# Altium integrated library Linear Technology Power Management LDO Linear Regulators.IntLib: 2339 symbols (part 114 of 131)
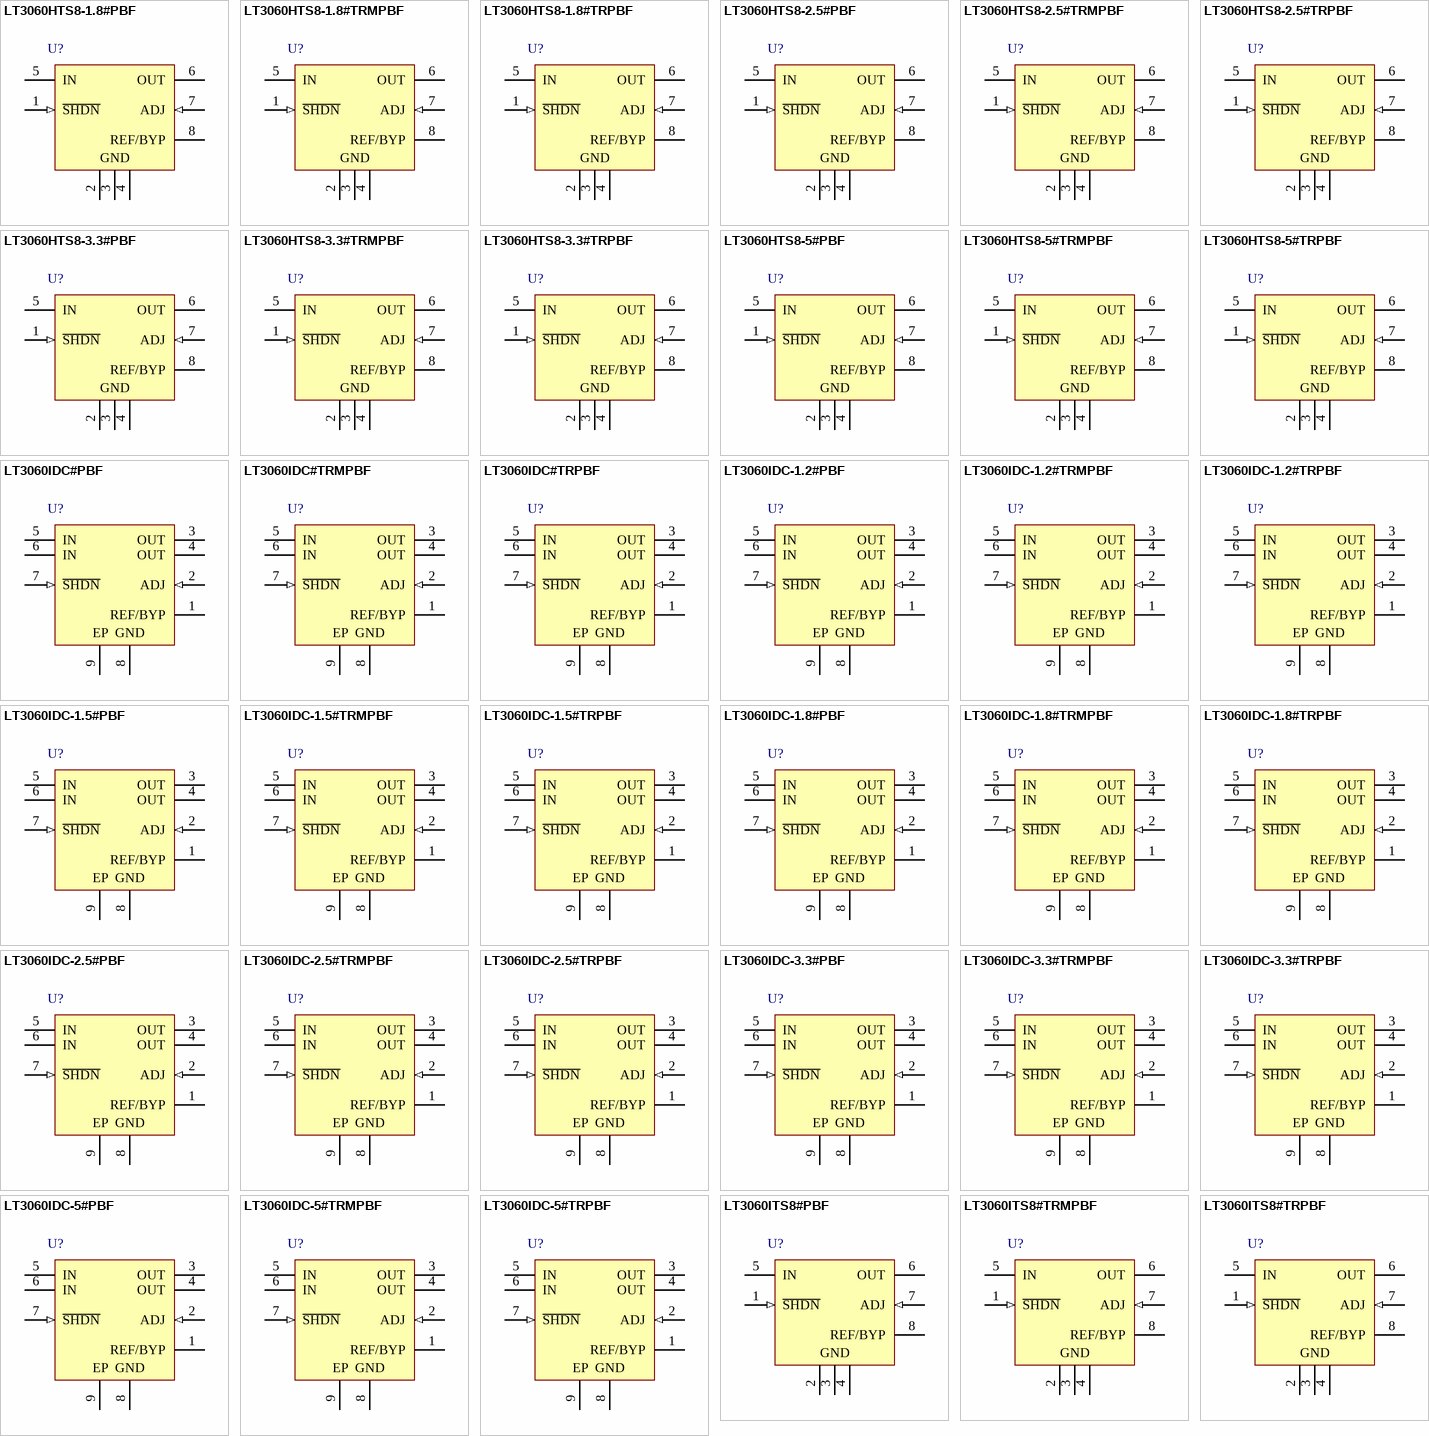
[diagram p182: symbols LT3060HTS8-1.8#PBF to LT3060ITS8#TRPBF]

## LT3060IDC#PBF
designator U?
Micropower, Low Noise, 100 mA Low Dropout, Linear Regulator, 1.6 to 45 V Vin, Adjustable Vout, 8-pin SON (DC8-8), -40 to 125 degC, Pb-Free; Manufacturer: Linear Technology; PartNumber: LT3060IDC#PBF; Discrete Pass Element: no; Dropout Voltage(V): 0.3; Iout(mA): 100; Isupply(mA): 0.04; Noise(uV): 30; Number of Outputs: 1; Output Voltage: Adj; PSRR(dB): 85; Vin Max(V): 45; Vin Min(V): 1.6; Vout Max(V): 44.5; Vout Min(V): 0.6; DatasheetVersion: Rev. B; PackageVersion: Rev. A, 06/2010; PackageReference: DC8-8; PackageDescription: 8-Pin Plastic DFN, Body 2 x 2 mm, Pitch 0.45 mm; Supplier 1: Newark; Supplier Part Number 1: 78T3957; RoHS: TRUE; Shutdown Current(uA): 0.3; Mounting Technology: Surface Mount; ComponentLink1Description: Manufacturer URL; ComponentLink1URL: http://www.linear.com/; ComponentLink2Description: Datasheet; ComponentLink2URL: http://cds.linear.com/docs/en/datasheet/3060fb.pdf; ComponentLink3Description: Package Specification; ComponentLink3URL: http://www.linear.com/docs/en/packaging/DFN_8_05-08-1719.pdf
footprint LT-DC8-8_V (SON, 8-Leads, Body 2x2mm, Pitch 0.45mm, Thermal Pad 1.37x0.64mm)
pins: 1 REF/BYP "Reference/Bypass. Connecting a single capacitor from this pin to GND bypasses the LT3060’s reference noise and soft-starts the reference. A 10nF bypass capacitor typically reduces output voltage noise to 30uVRMS in a 10H(See Datasheet)", 2 ADJ (in) "Adjust. This pin is the error amplifier’s inverting terminal. It’s typical bias current of 15nA flows out of the pin (see curve of ADJ Pin Bias Current vs Temperature in the Typical Performance Characteristics sectio(See Datasheet)", 3 OUT (power) "Output. These pin(s) supply power to the load. Stability requirements demand a minimum 2.2uF ceramic output capacitor to prevent oscillations. Large load transient applications require larger output capacitors to limit peak (See Datasheet)", 4 OUT (power) "Output. These pin(s) supply power to the load. Stability requirements demand a minimum 2.2uF ceramic output capacitor to prevent oscillations. Large load transient applications require larger output capacitors to limit peak (See Datasheet)", 5 IN (power) "Input. These pin(s) supply power to the device. The LT3060 requires a local IN bypass capacitor if it is located more than six inches from the main input filter capacitor. In general, battery output impedance rises with (See Datasheet)", 6 IN (power) "Input. These pin(s) supply power to the device. The LT3060 requires a local IN bypass capacitor if it is located more than six inches from the main input filter capacitor. In general, battery output impedance rises with (See Datasheet)", 7 ~{SHDN} (in) "Shutdown. Pulling the S\H\D\N\ pin low puts the LT3060 into a low power state and turns the output off. Drive the S\H\D\N\ pin with either logic or an open collector/drain with a pull-up resistor. The resistor supplies the (See Datasheet)", 8 GND (power) "Ground. For the adjustable LT3060, connect the bottom of the external resistor divider that sets the output voltage directly to GND for optimum regulation. For the DFN package, tie exposed pad Pin 9 directly to Pin 8 and the (See Datasheet)", 9 EP (power) "Ground. For the adjustable LT3060, connect the bottom of the external resistor divider that sets the output voltage directly to GND for optimum regulation. For the DFN package, tie exposed pad Pin 9 directly to Pin 8 and the (See Datasheet)"

## LT3060IDC#TRMPBF
designator U?
Micropower, Low Noise, 100 mA Low Dropout, Linear Regulator, 1.6 to 45 V Vin, Adjustable Vout, 8-pin SON (DC8-8), -40 to 125 degC, Pb-Free, Mini Tape and Reel; Manufacturer: Linear Technology; PartNumber: LT3060IDC#TRMPBF; Discrete Pass Element: no; Dropout Voltage(V): 0.3; Iout(mA): 100; Isupply(mA): 0.04; Noise(uV): 30; Number of Outputs: 1; Output Voltage: Adj; PSRR(dB): 85; Vin Max(V): 45; Vin Min(V): 1.6; Vout Max(V): 44.5; Vout Min(V): 0.6; DatasheetVersion: Rev. B; PackageVersion: Rev. A, 06/2010; PackageReference: DC8-8; PackageDescription: 8-Pin Plastic DFN, Body 2 x 2 mm, Pitch 0.45 mm; Supplier 1: Digi-Key; Supplier Part Number 1: LT3060IDC#TRMPBF-ND; Supplier 2: Newark; Supplier Part Number 2: 63R6843; Packing: Mini Tape and Reel; RoHS: TRUE; Shutdown Current(uA): 0.3; Mounting Technology: Surface Mount; ComponentLink1Description: Manufacturer URL; ComponentLink1URL: http://www.linear.com/; ComponentLink2Description: Datasheet; ComponentLink2URL: http://cds.linear.com/docs/en/datasheet/3060fb.pdf; ComponentLink3Description: Package Specification; ComponentLink3URL: http://www.linear.com/docs/en/packaging/DFN_8_05-08-1719.pdf
footprint LT-DC8-8_V (SON, 8-Leads, Body 2x2mm, Pitch 0.45mm, Thermal Pad 1.37x0.64mm)
pins: 1 REF/BYP "Reference/Bypass. Connecting a single capacitor from this pin to GND bypasses the LT3060’s reference noise and soft-starts the reference. A 10nF bypass capacitor typically reduces output voltage noise to 30uVRMS in a 10H(See Datasheet)", 2 ADJ (in) "Adjust. This pin is the error amplifier’s inverting terminal. It’s typical bias current of 15nA flows out of the pin (see curve of ADJ Pin Bias Current vs Temperature in the Typical Performance Characteristics sectio(See Datasheet)", 3 OUT (power) "Output. These pin(s) supply power to the load. Stability requirements demand a minimum 2.2uF ceramic output capacitor to prevent oscillations. Large load transient applications require larger output capacitors to limit peak (See Datasheet)", 4 OUT (power) "Output. These pin(s) supply power to the load. Stability requirements demand a minimum 2.2uF ceramic output capacitor to prevent oscillations. Large load transient applications require larger output capacitors to limit peak (See Datasheet)", 5 IN (power) "Input. These pin(s) supply power to the device. The LT3060 requires a local IN bypass capacitor if it is located more than six inches from the main input filter capacitor. In general, battery output impedance rises with (See Datasheet)", 6 IN (power) "Input. These pin(s) supply power to the device. The LT3060 requires a local IN bypass capacitor if it is located more than six inches from the main input filter capacitor. In general, battery output impedance rises with (See Datasheet)", 7 ~{SHDN} (in) "Shutdown. Pulling the S\H\D\N\ pin low puts the LT3060 into a low power state and turns the output off. Drive the S\H\D\N\ pin with either logic or an open collector/drain with a pull-up resistor. The resistor supplies the (See Datasheet)", 8 GND (power) "Ground. For the adjustable LT3060, connect the bottom of the external resistor divider that sets the output voltage directly to GND for optimum regulation. For the DFN package, tie exposed pad Pin 9 directly to Pin 8 and the (See Datasheet)", 9 EP (power) "Ground. For the adjustable LT3060, connect the bottom of the external resistor divider that sets the output voltage directly to GND for optimum regulation. For the DFN package, tie exposed pad Pin 9 directly to Pin 8 and the (See Datasheet)"

## LT3060IDC#TRPBF
designator U?
Micropower, Low Noise, 100 mA Low Dropout, Linear Regulator, 1.6 to 45 V Vin, Adjustable Vout, 8-pin SON (DC8-8), -40 to 125 degC, Pb-Free, Tape and Reel; Manufacturer: Linear Technology; PartNumber: LT3060IDC#TRPBF; Discrete Pass Element: no; Dropout Voltage(V): 0.3; Iout(mA): 100; Isupply(mA): 0.04; Noise(uV): 30; Number of Outputs: 1; Output Voltage: Adj; PSRR(dB): 85; Vin Max(V): 45; Vin Min(V): 1.6; Vout Max(V): 44.5; Vout Min(V): 0.6; DatasheetVersion: Rev. B; PackageVersion: Rev. A, 06/2010; PackageReference: DC8-8; PackageDescription: 8-Pin Plastic DFN, Body 2 x 2 mm, Pitch 0.45 mm; Supplier 1: Digi-Key; Supplier Part Number 1: LT3060IDC#TRPBF-ND; Supplier 2: Newark; Supplier Part Number 2: 63R6844; Packing: Tape and Reel; RoHS: TRUE; Shutdown Current(uA): 0.3; Mounting Technology: Surface Mount; ComponentLink1Description: Manufacturer URL; ComponentLink1URL: http://www.linear.com/; ComponentLink2Description: Datasheet; ComponentLink2URL: http://cds.linear.com/docs/en/datasheet/3060fb.pdf; ComponentLink3Description: Package Specification; ComponentLink3URL: http://www.linear.com/docs/en/packaging/DFN_8_05-08-1719.pdf
footprint LT-DC8-8_V (SON, 8-Leads, Body 2x2mm, Pitch 0.45mm, Thermal Pad 1.37x0.64mm)
pins: 1 REF/BYP "Reference/Bypass. Connecting a single capacitor from this pin to GND bypasses the LT3060’s reference noise and soft-starts the reference. A 10nF bypass capacitor typically reduces output voltage noise to 30uVRMS in a 10H(See Datasheet)", 2 ADJ (in) "Adjust. This pin is the error amplifier’s inverting terminal. It’s typical bias current of 15nA flows out of the pin (see curve of ADJ Pin Bias Current vs Temperature in the Typical Performance Characteristics sectio(See Datasheet)", 3 OUT (power) "Output. These pin(s) supply power to the load. Stability requirements demand a minimum 2.2uF ceramic output capacitor to prevent oscillations. Large load transient applications require larger output capacitors to limit peak (See Datasheet)", 4 OUT (power) "Output. These pin(s) supply power to the load. Stability requirements demand a minimum 2.2uF ceramic output capacitor to prevent oscillations. Large load transient applications require larger output capacitors to limit peak (See Datasheet)", 5 IN (power) "Input. These pin(s) supply power to the device. The LT3060 requires a local IN bypass capacitor if it is located more than six inches from the main input filter capacitor. In general, battery output impedance rises with (See Datasheet)", 6 IN (power) "Input. These pin(s) supply power to the device. The LT3060 requires a local IN bypass capacitor if it is located more than six inches from the main input filter capacitor. In general, battery output impedance rises with (See Datasheet)", 7 ~{SHDN} (in) "Shutdown. Pulling the S\H\D\N\ pin low puts the LT3060 into a low power state and turns the output off. Drive the S\H\D\N\ pin with either logic or an open collector/drain with a pull-up resistor. The resistor supplies the (See Datasheet)", 8 GND (power) "Ground. For the adjustable LT3060, connect the bottom of the external resistor divider that sets the output voltage directly to GND for optimum regulation. For the DFN package, tie exposed pad Pin 9 directly to Pin 8 and the (See Datasheet)", 9 EP (power) "Ground. For the adjustable LT3060, connect the bottom of the external resistor divider that sets the output voltage directly to GND for optimum regulation. For the DFN package, tie exposed pad Pin 9 directly to Pin 8 and the (See Datasheet)"

## LT3060IDC-1.2#PBF
designator U?
Micropower, Low Noise, 100 mA Low Dropout, Linear Regulator, 1.6 to 45 V Vin, 1.2 V Vout, 8-pin SON (DC8-8), -40 to 125 degC, Pb-Free; Manufacturer: Linear Technology; PartNumber: LT3060IDC-1.2#PBF; Discrete Pass Element: no; Dropout Voltage(V): 0.3; Iout(mA): 100; Isupply(mA): 0.04; Noise(uV): 30; Number of Outputs: 1; Output Voltage: 1.2 V; PSRR(dB): 79; Vin Max(V): 45; Vin Min(V): 1.6; DatasheetVersion: Rev. B; PackageVersion: Rev. A, 06/2010; PackageReference: DC8-8; PackageDescription: 8-Pin Plastic DFN, Body 2 x 2 mm, Pitch 0.45 mm; Supplier 1: Newark; Supplier Part Number 1: 78T3951; RoHS: TRUE; Shutdown Current(uA): 0.3; Mounting Technology: Surface Mount; ComponentLink1Description: Manufacturer URL; ComponentLink1URL: http://www.linear.com/; ComponentLink2Description: Datasheet; ComponentLink2URL: http://cds.linear.com/docs/en/datasheet/3060fb.pdf; ComponentLink3Description: Package Specification; ComponentLink3URL: http://www.linear.com/docs/en/packaging/DFN_8_05-08-1719.pdf
footprint LT-DC8-8_V (SON, 8-Leads, Body 2x2mm, Pitch 0.45mm, Thermal Pad 1.37x0.64mm)
pins: 1 REF/BYP "Reference/Bypass. Connecting a single capacitor from this pin to GND bypasses the LT3060’s reference noise and soft-starts the reference. A 10nF bypass capacitor typically reduces output voltage noise to 30uVRMS in a 10H(See Datasheet)", 2 ADJ (in) "Adjust. This pin is the error amplifier’s inverting terminal. It’s typical bias current of 15nA flows out of the pin (see curve of ADJ Pin Bias Current vs Temperature in the Typical Performance Characteristics sectio(See Datasheet)", 3 OUT (power) "Output. These pin(s) supply power to the load. Stability requirements demand a minimum 2.2uF ceramic output capacitor to prevent oscillations. Large load transient applications require larger output capacitors to limit peak (See Datasheet)", 4 OUT (power) "Output. These pin(s) supply power to the load. Stability requirements demand a minimum 2.2uF ceramic output capacitor to prevent oscillations. Large load transient applications require larger output capacitors to limit peak (See Datasheet)", 5 IN (power) "Input. These pin(s) supply power to the device. The LT3060 requires a local IN bypass capacitor if it is located more than six inches from the main input filter capacitor. In general, battery output impedance rises with (See Datasheet)", 6 IN (power) "Input. These pin(s) supply power to the device. The LT3060 requires a local IN bypass capacitor if it is located more than six inches from the main input filter capacitor. In general, battery output impedance rises with (See Datasheet)", 7 ~{SHDN} (in) "Shutdown. Pulling the S\H\D\N\ pin low puts the LT3060 into a low power state and turns the output off. Drive the S\H\D\N\ pin with either logic or an open collector/drain with a pull-up resistor. The resistor supplies the (See Datasheet)", 8 GND (power) "Ground. For the adjustable LT3060, connect the bottom of the external resistor divider that sets the output voltage directly to GND for optimum regulation. For the DFN package, tie exposed pad Pin 9 directly to Pin 8 and the (See Datasheet)", 9 EP (power) "Ground. For the adjustable LT3060, connect the bottom of the external resistor divider that sets the output voltage directly to GND for optimum regulation. For the DFN package, tie exposed pad Pin 9 directly to Pin 8 and the (See Datasheet)"

## LT3060IDC-1.2#TRMPBF
designator U?
Micropower, Low Noise, 100 mA Low Dropout, Linear Regulator, 1.6 to 45 V Vin, 1.2 V Vout, 8-pin SON (DC8-8), -40 to 125 degC, Pb-Free, Mini Tape and Reel; Manufacturer: Linear Technology; PartNumber: LT3060IDC-1.2#TRMPBF; Discrete Pass Element: no; Dropout Voltage(V): 0.3; Iout(mA): 100; Isupply(mA): 0.04; Noise(uV): 30; Number of Outputs: 1; Output Voltage: 1.2 V; PSRR(dB): 79; Vin Max(V): 45; Vin Min(V): 1.6; DatasheetVersion: Rev. B; PackageVersion: Rev. A, 06/2010; PackageReference: DC8-8; PackageDescription: 8-Pin Plastic DFN, Body 2 x 2 mm, Pitch 0.45 mm; Supplier 1: Digi-Key; Supplier Part Number 1: LT3060IDC-1.2#TRMPBF-ND; Packing: Mini Tape and Reel; RoHS: TRUE; Shutdown Current(uA): 0.3; Mounting Technology: Surface Mount; ComponentLink1Description: Manufacturer URL; ComponentLink1URL: http://www.linear.com/; ComponentLink2Description: Datasheet; ComponentLink2URL: http://cds.linear.com/docs/en/datasheet/3060fb.pdf; ComponentLink3Description: Package Specification; ComponentLink3URL: http://www.linear.com/docs/en/packaging/DFN_8_05-08-1719.pdf
footprint LT-DC8-8_V (SON, 8-Leads, Body 2x2mm, Pitch 0.45mm, Thermal Pad 1.37x0.64mm)
pins: 1 REF/BYP "Reference/Bypass. Connecting a single capacitor from this pin to GND bypasses the LT3060’s reference noise and soft-starts the reference. A 10nF bypass capacitor typically reduces output voltage noise to 30uVRMS in a 10H(See Datasheet)", 2 ADJ (in) "Adjust. This pin is the error amplifier’s inverting terminal. It’s typical bias current of 15nA flows out of the pin (see curve of ADJ Pin Bias Current vs Temperature in the Typical Performance Characteristics sectio(See Datasheet)", 3 OUT (power) "Output. These pin(s) supply power to the load. Stability requirements demand a minimum 2.2uF ceramic output capacitor to prevent oscillations. Large load transient applications require larger output capacitors to limit peak (See Datasheet)", 4 OUT (power) "Output. These pin(s) supply power to the load. Stability requirements demand a minimum 2.2uF ceramic output capacitor to prevent oscillations. Large load transient applications require larger output capacitors to limit peak (See Datasheet)", 5 IN (power) "Input. These pin(s) supply power to the device. The LT3060 requires a local IN bypass capacitor if it is located more than six inches from the main input filter capacitor. In general, battery output impedance rises with (See Datasheet)", 6 IN (power) "Input. These pin(s) supply power to the device. The LT3060 requires a local IN bypass capacitor if it is located more than six inches from the main input filter capacitor. In general, battery output impedance rises with (See Datasheet)", 7 ~{SHDN} (in) "Shutdown. Pulling the S\H\D\N\ pin low puts the LT3060 into a low power state and turns the output off. Drive the S\H\D\N\ pin with either logic or an open collector/drain with a pull-up resistor. The resistor supplies the (See Datasheet)", 8 GND (power) "Ground. For the adjustable LT3060, connect the bottom of the external resistor divider that sets the output voltage directly to GND for optimum regulation. For the DFN package, tie exposed pad Pin 9 directly to Pin 8 and the (See Datasheet)", 9 EP (power) "Ground. For the adjustable LT3060, connect the bottom of the external resistor divider that sets the output voltage directly to GND for optimum regulation. For the DFN package, tie exposed pad Pin 9 directly to Pin 8 and the (See Datasheet)"

## LT3060IDC-1.2#TRPBF
designator U?
Micropower, Low Noise, 100 mA Low Dropout, Linear Regulator, 1.6 to 45 V Vin, 1.2 V Vout, 8-pin SON (DC8-8), -40 to 125 degC, Pb-Free, Tape and Reel; Manufacturer: Linear Technology; PartNumber: LT3060IDC-1.2#TRPBF; Discrete Pass Element: no; Dropout Voltage(V): 0.3; Iout(mA): 100; Isupply(mA): 0.04; Noise(uV): 30; Number of Outputs: 1; Output Voltage: 1.2 V; PSRR(dB): 79; Vin Max(V): 45; Vin Min(V): 1.6; DatasheetVersion: Rev. B; PackageVersion: Rev. A, 06/2010; PackageReference: DC8-8; PackageDescription: 8-Pin Plastic DFN, Body 2 x 2 mm, Pitch 0.45 mm; Supplier 1: Digi-Key; Supplier Part Number 1: LT3060IDC-1.2#TRPBF-ND; Packing: Tape and Reel; RoHS: TRUE; Shutdown Current(uA): 0.3; Mounting Technology: Surface Mount; ComponentLink1Description: Manufacturer URL; ComponentLink1URL: http://www.linear.com/; ComponentLink2Description: Datasheet; ComponentLink2URL: http://cds.linear.com/docs/en/datasheet/3060fb.pdf; ComponentLink3Description: Package Specification; ComponentLink3URL: http://www.linear.com/docs/en/packaging/DFN_8_05-08-1719.pdf
footprint LT-DC8-8_V (SON, 8-Leads, Body 2x2mm, Pitch 0.45mm, Thermal Pad 1.37x0.64mm)
pins: 1 REF/BYP "Reference/Bypass. Connecting a single capacitor from this pin to GND bypasses the LT3060’s reference noise and soft-starts the reference. A 10nF bypass capacitor typically reduces output voltage noise to 30uVRMS in a 10H(See Datasheet)", 2 ADJ (in) "Adjust. This pin is the error amplifier’s inverting terminal. It’s typical bias current of 15nA flows out of the pin (see curve of ADJ Pin Bias Current vs Temperature in the Typical Performance Characteristics sectio(See Datasheet)", 3 OUT (power) "Output. These pin(s) supply power to the load. Stability requirements demand a minimum 2.2uF ceramic output capacitor to prevent oscillations. Large load transient applications require larger output capacitors to limit peak (See Datasheet)", 4 OUT (power) "Output. These pin(s) supply power to the load. Stability requirements demand a minimum 2.2uF ceramic output capacitor to prevent oscillations. Large load transient applications require larger output capacitors to limit peak (See Datasheet)", 5 IN (power) "Input. These pin(s) supply power to the device. The LT3060 requires a local IN bypass capacitor if it is located more than six inches from the main input filter capacitor. In general, battery output impedance rises with (See Datasheet)", 6 IN (power) "Input. These pin(s) supply power to the device. The LT3060 requires a local IN bypass capacitor if it is located more than six inches from the main input filter capacitor. In general, battery output impedance rises with (See Datasheet)", 7 ~{SHDN} (in) "Shutdown. Pulling the S\H\D\N\ pin low puts the LT3060 into a low power state and turns the output off. Drive the S\H\D\N\ pin with either logic or an open collector/drain with a pull-up resistor. The resistor supplies the (See Datasheet)", 8 GND (power) "Ground. For the adjustable LT3060, connect the bottom of the external resistor divider that sets the output voltage directly to GND for optimum regulation. For the DFN package, tie exposed pad Pin 9 directly to Pin 8 and the (See Datasheet)", 9 EP (power) "Ground. For the adjustable LT3060, connect the bottom of the external resistor divider that sets the output voltage directly to GND for optimum regulation. For the DFN package, tie exposed pad Pin 9 directly to Pin 8 and the (See Datasheet)"

## LT3060IDC-1.5#PBF
designator U?
Micropower, Low Noise, 100 mA Low Dropout, Linear Regulator, 1.6 to 45 V Vin, 1.5 V Vout, 8-pin SON (DC8-8), -40 to 125 degC, Pb-Free; Manufacturer: Linear Technology; PartNumber: LT3060IDC-1.5#PBF; Discrete Pass Element: no; Dropout Voltage(V): 0.3; Iout(mA): 100; Isupply(mA): 0.04; Noise(uV): 30; Number of Outputs: 1; Output Voltage: 1.5 V; PSRR(dB): 77; Vin Max(V): 45; Vin Min(V): 1.6; DatasheetVersion: Rev. B; PackageVersion: Rev. A, 06/2010; PackageReference: DC8-8; PackageDescription: 8-Pin Plastic DFN, Body 2 x 2 mm, Pitch 0.45 mm; RoHS: TRUE; Shutdown Current(uA): 0.3; Mounting Technology: Surface Mount; ComponentLink1Description: Manufacturer URL; ComponentLink1URL: http://www.linear.com/; ComponentLink2Description: Datasheet; ComponentLink2URL: http://cds.linear.com/docs/en/datasheet/3060fb.pdf; ComponentLink3Description: Package Specification; ComponentLink3URL: http://www.linear.com/docs/en/packaging/DFN_8_05-08-1719.pdf
footprint LT-DC8-8_V (SON, 8-Leads, Body 2x2mm, Pitch 0.45mm, Thermal Pad 1.37x0.64mm)
pins: 1 REF/BYP "Reference/Bypass. Connecting a single capacitor from this pin to GND bypasses the LT3060’s reference noise and soft-starts the reference. A 10nF bypass capacitor typically reduces output voltage noise to 30uVRMS in a 10H(See Datasheet)", 2 ADJ (in) "Adjust. This pin is the error amplifier’s inverting terminal. It’s typical bias current of 15nA flows out of the pin (see curve of ADJ Pin Bias Current vs Temperature in the Typical Performance Characteristics sectio(See Datasheet)", 3 OUT (power) "Output. These pin(s) supply power to the load. Stability requirements demand a minimum 2.2uF ceramic output capacitor to prevent oscillations. Large load transient applications require larger output capacitors to limit peak (See Datasheet)", 4 OUT (power) "Output. These pin(s) supply power to the load. Stability requirements demand a minimum 2.2uF ceramic output capacitor to prevent oscillations. Large load transient applications require larger output capacitors to limit peak (See Datasheet)", 5 IN (power) "Input. These pin(s) supply power to the device. The LT3060 requires a local IN bypass capacitor if it is located more than six inches from the main input filter capacitor. In general, battery output impedance rises with (See Datasheet)", 6 IN (power) "Input. These pin(s) supply power to the device. The LT3060 requires a local IN bypass capacitor if it is located more than six inches from the main input filter capacitor. In general, battery output impedance rises with (See Datasheet)", 7 ~{SHDN} (in) "Shutdown. Pulling the S\H\D\N\ pin low puts the LT3060 into a low power state and turns the output off. Drive the S\H\D\N\ pin with either logic or an open collector/drain with a pull-up resistor. The resistor supplies the (See Datasheet)", 8 GND (power) "Ground. For the adjustable LT3060, connect the bottom of the external resistor divider that sets the output voltage directly to GND for optimum regulation. For the DFN package, tie exposed pad Pin 9 directly to Pin 8 and the (See Datasheet)", 9 EP (power) "Ground. For the adjustable LT3060, connect the bottom of the external resistor divider that sets the output voltage directly to GND for optimum regulation. For the DFN package, tie exposed pad Pin 9 directly to Pin 8 and the (See Datasheet)"

## LT3060IDC-1.5#TRMPBF
designator U?
Micropower, Low Noise, 100 mA Low Dropout, Linear Regulator, 1.6 to 45 V Vin, 1.5 V Vout, 8-pin SON (DC8-8), -40 to 125 degC, Pb-Free, Mini Tape and Reel; Manufacturer: Linear Technology; PartNumber: LT3060IDC-1.5#TRMPBF; Discrete Pass Element: no; Dropout Voltage(V): 0.3; Iout(mA): 100; Isupply(mA): 0.04; Noise(uV): 30; Number of Outputs: 1; Output Voltage: 1.5 V; PSRR(dB): 77; Vin Max(V): 45; Vin Min(V): 1.6; DatasheetVersion: Rev. B; PackageVersion: Rev. A, 06/2010; PackageReference: DC8-8; PackageDescription: 8-Pin Plastic DFN, Body 2 x 2 mm, Pitch 0.45 mm; Supplier 1: Digi-Key; Supplier Part Number 1: LT3060IDC-1.5#TRMPBF-ND; Packing: Mini Tape and Reel; RoHS: TRUE; Shutdown Current(uA): 0.3; Mounting Technology: Surface Mount; ComponentLink1Description: Manufacturer URL; ComponentLink1URL: http://www.linear.com/; ComponentLink2Description: Datasheet; ComponentLink2URL: http://cds.linear.com/docs/en/datasheet/3060fb.pdf; ComponentLink3Description: Package Specification; ComponentLink3URL: http://www.linear.com/docs/en/packaging/DFN_8_05-08-1719.pdf
footprint LT-DC8-8_V (SON, 8-Leads, Body 2x2mm, Pitch 0.45mm, Thermal Pad 1.37x0.64mm)
pins: 1 REF/BYP "Reference/Bypass. Connecting a single capacitor from this pin to GND bypasses the LT3060’s reference noise and soft-starts the reference. A 10nF bypass capacitor typically reduces output voltage noise to 30uVRMS in a 10H(See Datasheet)", 2 ADJ (in) "Adjust. This pin is the error amplifier’s inverting terminal. It’s typical bias current of 15nA flows out of the pin (see curve of ADJ Pin Bias Current vs Temperature in the Typical Performance Characteristics sectio(See Datasheet)", 3 OUT (power) "Output. These pin(s) supply power to the load. Stability requirements demand a minimum 2.2uF ceramic output capacitor to prevent oscillations. Large load transient applications require larger output capacitors to limit peak (See Datasheet)", 4 OUT (power) "Output. These pin(s) supply power to the load. Stability requirements demand a minimum 2.2uF ceramic output capacitor to prevent oscillations. Large load transient applications require larger output capacitors to limit peak (See Datasheet)", 5 IN (power) "Input. These pin(s) supply power to the device. The LT3060 requires a local IN bypass capacitor if it is located more than six inches from the main input filter capacitor. In general, battery output impedance rises with (See Datasheet)", 6 IN (power) "Input. These pin(s) supply power to the device. The LT3060 requires a local IN bypass capacitor if it is located more than six inches from the main input filter capacitor. In general, battery output impedance rises with (See Datasheet)", 7 ~{SHDN} (in) "Shutdown. Pulling the S\H\D\N\ pin low puts the LT3060 into a low power state and turns the output off. Drive the S\H\D\N\ pin with either logic or an open collector/drain with a pull-up resistor. The resistor supplies the (See Datasheet)", 8 GND (power) "Ground. For the adjustable LT3060, connect the bottom of the external resistor divider that sets the output voltage directly to GND for optimum regulation. For the DFN package, tie exposed pad Pin 9 directly to Pin 8 and the (See Datasheet)", 9 EP (power) "Ground. For the adjustable LT3060, connect the bottom of the external resistor divider that sets the output voltage directly to GND for optimum regulation. For the DFN package, tie exposed pad Pin 9 directly to Pin 8 and the (See Datasheet)"

## LT3060IDC-1.5#TRPBF
designator U?
Micropower, Low Noise, 100 mA Low Dropout, Linear Regulator, 1.6 to 45 V Vin, 1.5 V Vout, 8-pin SON (DC8-8), -40 to 125 degC, Pb-Free, Tape and Reel; Manufacturer: Linear Technology; PartNumber: LT3060IDC-1.5#TRPBF; Discrete Pass Element: no; Dropout Voltage(V): 0.3; Iout(mA): 100; Isupply(mA): 0.04; Noise(uV): 30; Number of Outputs: 1; Output Voltage: 1.5 V; PSRR(dB): 77; Vin Max(V): 45; Vin Min(V): 1.6; DatasheetVersion: Rev. B; PackageVersion: Rev. A, 06/2010; PackageReference: DC8-8; PackageDescription: 8-Pin Plastic DFN, Body 2 x 2 mm, Pitch 0.45 mm; Supplier 1: Digi-Key; Supplier Part Number 1: LT3060IDC-1.5#TRPBF-ND; Packing: Tape and Reel; RoHS: TRUE; Shutdown Current(uA): 0.3; Mounting Technology: Surface Mount; ComponentLink1Description: Manufacturer URL; ComponentLink1URL: http://www.linear.com/; ComponentLink2Description: Datasheet; ComponentLink2URL: http://cds.linear.com/docs/en/datasheet/3060fb.pdf; ComponentLink3Description: Package Specification; ComponentLink3URL: http://www.linear.com/docs/en/packaging/DFN_8_05-08-1719.pdf
footprint LT-DC8-8_V (SON, 8-Leads, Body 2x2mm, Pitch 0.45mm, Thermal Pad 1.37x0.64mm)
pins: 1 REF/BYP "Reference/Bypass. Connecting a single capacitor from this pin to GND bypasses the LT3060’s reference noise and soft-starts the reference. A 10nF bypass capacitor typically reduces output voltage noise to 30uVRMS in a 10H(See Datasheet)", 2 ADJ (in) "Adjust. This pin is the error amplifier’s inverting terminal. It’s typical bias current of 15nA flows out of the pin (see curve of ADJ Pin Bias Current vs Temperature in the Typical Performance Characteristics sectio(See Datasheet)", 3 OUT (power) "Output. These pin(s) supply power to the load. Stability requirements demand a minimum 2.2uF ceramic output capacitor to prevent oscillations. Large load transient applications require larger output capacitors to limit peak (See Datasheet)", 4 OUT (power) "Output. These pin(s) supply power to the load. Stability requirements demand a minimum 2.2uF ceramic output capacitor to prevent oscillations. Large load transient applications require larger output capacitors to limit peak (See Datasheet)", 5 IN (power) "Input. These pin(s) supply power to the device. The LT3060 requires a local IN bypass capacitor if it is located more than six inches from the main input filter capacitor. In general, battery output impedance rises with (See Datasheet)", 6 IN (power) "Input. These pin(s) supply power to the device. The LT3060 requires a local IN bypass capacitor if it is located more than six inches from the main input filter capacitor. In general, battery output impedance rises with (See Datasheet)", 7 ~{SHDN} (in) "Shutdown. Pulling the S\H\D\N\ pin low puts the LT3060 into a low power state and turns the output off. Drive the S\H\D\N\ pin with either logic or an open collector/drain with a pull-up resistor. The resistor supplies the (See Datasheet)", 8 GND (power) "Ground. For the adjustable LT3060, connect the bottom of the external resistor divider that sets the output voltage directly to GND for optimum regulation. For the DFN package, tie exposed pad Pin 9 directly to Pin 8 and the (See Datasheet)", 9 EP (power) "Ground. For the adjustable LT3060, connect the bottom of the external resistor divider that sets the output voltage directly to GND for optimum regulation. For the DFN package, tie exposed pad Pin 9 directly to Pin 8 and the (See Datasheet)"

## LT3060IDC-1.8#PBF
designator U?
Micropower, Low Noise, 100 mA Low Dropout, Linear Regulator, 1.6 to 45 V Vin, 1.8 V Vout, 8-pin SON (DC8-8), -40 to 125 degC, Pb-Free; Manufacturer: Linear Technology; PartNumber: LT3060IDC-1.8#PBF; Discrete Pass Element: no; Dropout Voltage(V): 0.3; Iout(mA): 100; Isupply(mA): 0.04; Noise(uV): 30; Number of Outputs: 1; Output Voltage: 1.8 V; PSRR(dB): 75; Vin Max(V): 45; Vin Min(V): 1.6; DatasheetVersion: Rev. B; PackageVersion: Rev. A, 06/2010; PackageReference: DC8-8; PackageDescription: 8-Pin Plastic DFN, Body 2 x 2 mm, Pitch 0.45 mm; Supplier 1: Newark; Supplier Part Number 1: 78T3953; RoHS: TRUE; Shutdown Current(uA): 0.3; Mounting Technology: Surface Mount; ComponentLink1Description: Manufacturer URL; ComponentLink1URL: http://www.linear.com/; ComponentLink2Description: Datasheet; ComponentLink2URL: http://cds.linear.com/docs/en/datasheet/3060fb.pdf; ComponentLink3Description: Package Specification; ComponentLink3URL: http://www.linear.com/docs/en/packaging/DFN_8_05-08-1719.pdf
footprint LT-DC8-8_V (SON, 8-Leads, Body 2x2mm, Pitch 0.45mm, Thermal Pad 1.37x0.64mm)
pins: 1 REF/BYP "Reference/Bypass. Connecting a single capacitor from this pin to GND bypasses the LT3060’s reference noise and soft-starts the reference. A 10nF bypass capacitor typically reduces output voltage noise to 30uVRMS in a 10H(See Datasheet)", 2 ADJ (in) "Adjust. This pin is the error amplifier’s inverting terminal. It’s typical bias current of 15nA flows out of the pin (see curve of ADJ Pin Bias Current vs Temperature in the Typical Performance Characteristics sectio(See Datasheet)", 3 OUT (power) "Output. These pin(s) supply power to the load. Stability requirements demand a minimum 2.2uF ceramic output capacitor to prevent oscillations. Large load transient applications require larger output capacitors to limit peak (See Datasheet)", 4 OUT (power) "Output. These pin(s) supply power to the load. Stability requirements demand a minimum 2.2uF ceramic output capacitor to prevent oscillations. Large load transient applications require larger output capacitors to limit peak (See Datasheet)", 5 IN (power) "Input. These pin(s) supply power to the device. The LT3060 requires a local IN bypass capacitor if it is located more than six inches from the main input filter capacitor. In general, battery output impedance rises with (See Datasheet)", 6 IN (power) "Input. These pin(s) supply power to the device. The LT3060 requires a local IN bypass capacitor if it is located more than six inches from the main input filter capacitor. In general, battery output impedance rises with (See Datasheet)", 7 ~{SHDN} (in) "Shutdown. Pulling the S\H\D\N\ pin low puts the LT3060 into a low power state and turns the output off. Drive the S\H\D\N\ pin with either logic or an open collector/drain with a pull-up resistor. The resistor supplies the (See Datasheet)", 8 GND (power) "Ground. For the adjustable LT3060, connect the bottom of the external resistor divider that sets the output voltage directly to GND for optimum regulation. For the DFN package, tie exposed pad Pin 9 directly to Pin 8 and the (See Datasheet)", 9 EP (power) "Ground. For the adjustable LT3060, connect the bottom of the external resistor divider that sets the output voltage directly to GND for optimum regulation. For the DFN package, tie exposed pad Pin 9 directly to Pin 8 and the (See Datasheet)"

## LT3060IDC-1.8#TRMPBF
designator U?
Micropower, Low Noise, 100 mA Low Dropout, Linear Regulator, 1.6 to 45 V Vin, 1.8 V Vout, 8-pin SON (DC8-8), -40 to 125 degC, Pb-Free, Mini Tape and Reel; Manufacturer: Linear Technology; PartNumber: LT3060IDC-1.8#TRMPBF; Discrete Pass Element: no; Dropout Voltage(V): 0.3; Iout(mA): 100; Isupply(mA): 0.04; Noise(uV): 30; Number of Outputs: 1; Output Voltage: 1.8 V; PSRR(dB): 75; Vin Max(V): 45; Vin Min(V): 1.6; DatasheetVersion: Rev. B; PackageVersion: Rev. A, 06/2010; PackageReference: DC8-8; PackageDescription: 8-Pin Plastic DFN, Body 2 x 2 mm, Pitch 0.45 mm; Supplier 1: Digi-Key; Supplier Part Number 1: LT3060IDC-1.8#TRMPBF-ND; Packing: Mini Tape and Reel; RoHS: TRUE; Shutdown Current(uA): 0.3; Mounting Technology: Surface Mount; ComponentLink1Description: Manufacturer URL; ComponentLink1URL: http://www.linear.com/; ComponentLink2Description: Datasheet; ComponentLink2URL: http://cds.linear.com/docs/en/datasheet/3060fb.pdf; ComponentLink3Description: Package Specification; ComponentLink3URL: http://www.linear.com/docs/en/packaging/DFN_8_05-08-1719.pdf
footprint LT-DC8-8_V (SON, 8-Leads, Body 2x2mm, Pitch 0.45mm, Thermal Pad 1.37x0.64mm)
pins: 1 REF/BYP "Reference/Bypass. Connecting a single capacitor from this pin to GND bypasses the LT3060’s reference noise and soft-starts the reference. A 10nF bypass capacitor typically reduces output voltage noise to 30uVRMS in a 10H(See Datasheet)", 2 ADJ (in) "Adjust. This pin is the error amplifier’s inverting terminal. It’s typical bias current of 15nA flows out of the pin (see curve of ADJ Pin Bias Current vs Temperature in the Typical Performance Characteristics sectio(See Datasheet)", 3 OUT (power) "Output. These pin(s) supply power to the load. Stability requirements demand a minimum 2.2uF ceramic output capacitor to prevent oscillations. Large load transient applications require larger output capacitors to limit peak (See Datasheet)", 4 OUT (power) "Output. These pin(s) supply power to the load. Stability requirements demand a minimum 2.2uF ceramic output capacitor to prevent oscillations. Large load transient applications require larger output capacitors to limit peak (See Datasheet)", 5 IN (power) "Input. These pin(s) supply power to the device. The LT3060 requires a local IN bypass capacitor if it is located more than six inches from the main input filter capacitor. In general, battery output impedance rises with (See Datasheet)", 6 IN (power) "Input. These pin(s) supply power to the device. The LT3060 requires a local IN bypass capacitor if it is located more than six inches from the main input filter capacitor. In general, battery output impedance rises with (See Datasheet)", 7 ~{SHDN} (in) "Shutdown. Pulling the S\H\D\N\ pin low puts the LT3060 into a low power state and turns the output off. Drive the S\H\D\N\ pin with either logic or an open collector/drain with a pull-up resistor. The resistor supplies the (See Datasheet)", 8 GND (power) "Ground. For the adjustable LT3060, connect the bottom of the external resistor divider that sets the output voltage directly to GND for optimum regulation. For the DFN package, tie exposed pad Pin 9 directly to Pin 8 and the (See Datasheet)", 9 EP (power) "Ground. For the adjustable LT3060, connect the bottom of the external resistor divider that sets the output voltage directly to GND for optimum regulation. For the DFN package, tie exposed pad Pin 9 directly to Pin 8 and the (See Datasheet)"

## LT3060IDC-1.8#TRPBF
designator U?
Micropower, Low Noise, 100 mA Low Dropout, Linear Regulator, 1.6 to 45 V Vin, 1.8 V Vout, 8-pin SON (DC8-8), -40 to 125 degC, Pb-Free, Tape and Reel; Manufacturer: Linear Technology; PartNumber: LT3060IDC-1.8#TRPBF; Discrete Pass Element: no; Dropout Voltage(V): 0.3; Iout(mA): 100; Isupply(mA): 0.04; Noise(uV): 30; Number of Outputs: 1; Output Voltage: 1.8 V; PSRR(dB): 75; Vin Max(V): 45; Vin Min(V): 1.6; DatasheetVersion: Rev. B; PackageVersion: Rev. A, 06/2010; PackageReference: DC8-8; PackageDescription: 8-Pin Plastic DFN, Body 2 x 2 mm, Pitch 0.45 mm; Supplier 1: Digi-Key; Supplier Part Number 1: LT3060IDC-1.8#TRPBF-ND; Packing: Tape and Reel; RoHS: TRUE; Shutdown Current(uA): 0.3; Mounting Technology: Surface Mount; ComponentLink1Description: Manufacturer URL; ComponentLink1URL: http://www.linear.com/; ComponentLink2Description: Datasheet; ComponentLink2URL: http://cds.linear.com/docs/en/datasheet/3060fb.pdf; ComponentLink3Description: Package Specification; ComponentLink3URL: http://www.linear.com/docs/en/packaging/DFN_8_05-08-1719.pdf
footprint LT-DC8-8_V (SON, 8-Leads, Body 2x2mm, Pitch 0.45mm, Thermal Pad 1.37x0.64mm)
pins: 1 REF/BYP "Reference/Bypass. Connecting a single capacitor from this pin to GND bypasses the LT3060’s reference noise and soft-starts the reference. A 10nF bypass capacitor typically reduces output voltage noise to 30uVRMS in a 10H(See Datasheet)", 2 ADJ (in) "Adjust. This pin is the error amplifier’s inverting terminal. It’s typical bias current of 15nA flows out of the pin (see curve of ADJ Pin Bias Current vs Temperature in the Typical Performance Characteristics sectio(See Datasheet)", 3 OUT (power) "Output. These pin(s) supply power to the load. Stability requirements demand a minimum 2.2uF ceramic output capacitor to prevent oscillations. Large load transient applications require larger output capacitors to limit peak (See Datasheet)", 4 OUT (power) "Output. These pin(s) supply power to the load. Stability requirements demand a minimum 2.2uF ceramic output capacitor to prevent oscillations. Large load transient applications require larger output capacitors to limit peak (See Datasheet)", 5 IN (power) "Input. These pin(s) supply power to the device. The LT3060 requires a local IN bypass capacitor if it is located more than six inches from the main input filter capacitor. In general, battery output impedance rises with (See Datasheet)", 6 IN (power) "Input. These pin(s) supply power to the device. The LT3060 requires a local IN bypass capacitor if it is located more than six inches from the main input filter capacitor. In general, battery output impedance rises with (See Datasheet)", 7 ~{SHDN} (in) "Shutdown. Pulling the S\H\D\N\ pin low puts the LT3060 into a low power state and turns the output off. Drive the S\H\D\N\ pin with either logic or an open collector/drain with a pull-up resistor. The resistor supplies the (See Datasheet)", 8 GND (power) "Ground. For the adjustable LT3060, connect the bottom of the external resistor divider that sets the output voltage directly to GND for optimum regulation. For the DFN package, tie exposed pad Pin 9 directly to Pin 8 and the (See Datasheet)", 9 EP (power) "Ground. For the adjustable LT3060, connect the bottom of the external resistor divider that sets the output voltage directly to GND for optimum regulation. For the DFN package, tie exposed pad Pin 9 directly to Pin 8 and the (See Datasheet)"

## LT3060IDC-2.5#PBF
designator U?
Micropower, Low Noise, 100 mA Low Dropout, Linear Regulator, 1.6 to 45 V Vin, 2.5 V Vout, 8-pin SON (DC8-8), -40 to 125 degC, Pb-Free; Manufacturer: Linear Technology; PartNumber: LT3060IDC-2.5#PBF; Discrete Pass Element: no; Dropout Voltage(V): 0.3; Iout(mA): 100; Isupply(mA): 0.04; Noise(uV): 30; Number of Outputs: 1; Output Voltage: 2.5 V; PSRR(dB): 73; Vin Max(V): 45; Vin Min(V): 1.6; DatasheetVersion: Rev. B; PackageVersion: Rev. A, 06/2010; PackageReference: DC8-8; PackageDescription: 8-Pin Plastic DFN, Body 2 x 2 mm, Pitch 0.45 mm; Supplier 1: Newark; Supplier Part Number 1: 78T3954; RoHS: TRUE; Shutdown Current(uA): 0.3; Mounting Technology: Surface Mount; ComponentLink1Description: Manufacturer URL; ComponentLink1URL: http://www.linear.com/; ComponentLink2Description: Datasheet; ComponentLink2URL: http://cds.linear.com/docs/en/datasheet/3060fb.pdf; ComponentLink3Description: Package Specification; ComponentLink3URL: http://www.linear.com/docs/en/packaging/DFN_8_05-08-1719.pdf
footprint LT-DC8-8_V (SON, 8-Leads, Body 2x2mm, Pitch 0.45mm, Thermal Pad 1.37x0.64mm)
pins: 1 REF/BYP "Reference/Bypass. Connecting a single capacitor from this pin to GND bypasses the LT3060’s reference noise and soft-starts the reference. A 10nF bypass capacitor typically reduces output voltage noise to 30uVRMS in a 10H(See Datasheet)", 2 ADJ (in) "Adjust. This pin is the error amplifier’s inverting terminal. It’s typical bias current of 15nA flows out of the pin (see curve of ADJ Pin Bias Current vs Temperature in the Typical Performance Characteristics sectio(See Datasheet)", 3 OUT (power) "Output. These pin(s) supply power to the load. Stability requirements demand a minimum 2.2uF ceramic output capacitor to prevent oscillations. Large load transient applications require larger output capacitors to limit peak (See Datasheet)", 4 OUT (power) "Output. These pin(s) supply power to the load. Stability requirements demand a minimum 2.2uF ceramic output capacitor to prevent oscillations. Large load transient applications require larger output capacitors to limit peak (See Datasheet)", 5 IN (power) "Input. These pin(s) supply power to the device. The LT3060 requires a local IN bypass capacitor if it is located more than six inches from the main input filter capacitor. In general, battery output impedance rises with (See Datasheet)", 6 IN (power) "Input. These pin(s) supply power to the device. The LT3060 requires a local IN bypass capacitor if it is located more than six inches from the main input filter capacitor. In general, battery output impedance rises with (See Datasheet)", 7 ~{SHDN} (in) "Shutdown. Pulling the S\H\D\N\ pin low puts the LT3060 into a low power state and turns the output off. Drive the S\H\D\N\ pin with either logic or an open collector/drain with a pull-up resistor. The resistor supplies the (See Datasheet)", 8 GND (power) "Ground. For the adjustable LT3060, connect the bottom of the external resistor divider that sets the output voltage directly to GND for optimum regulation. For the DFN package, tie exposed pad Pin 9 directly to Pin 8 and the (See Datasheet)", 9 EP (power) "Ground. For the adjustable LT3060, connect the bottom of the external resistor divider that sets the output voltage directly to GND for optimum regulation. For the DFN package, tie exposed pad Pin 9 directly to Pin 8 and the (See Datasheet)"

## LT3060IDC-2.5#TRMPBF
designator U?
Micropower, Low Noise, 100 mA Low Dropout, Linear Regulator, 1.6 to 45 V Vin, 2.5 V Vout, 8-pin SON (DC8-8), -40 to 125 degC, Pb-Free, Mini Tape and Reel; Manufacturer: Linear Technology; PartNumber: LT3060IDC-2.5#TRMPBF; Discrete Pass Element: no; Dropout Voltage(V): 0.3; Iout(mA): 100; Isupply(mA): 0.04; Noise(uV): 30; Number of Outputs: 1; Output Voltage: 2.5 V; PSRR(dB): 73; Vin Max(V): 45; Vin Min(V): 1.6; DatasheetVersion: Rev. B; PackageVersion: Rev. A, 06/2010; PackageReference: DC8-8; PackageDescription: 8-Pin Plastic DFN, Body 2 x 2 mm, Pitch 0.45 mm; Supplier 1: Digi-Key; Supplier Part Number 1: LT3060IDC-2.5#TRMPBF-ND; Packing: Mini Tape and Reel; RoHS: TRUE; Shutdown Current(uA): 0.3; Mounting Technology: Surface Mount; ComponentLink1Description: Manufacturer URL; ComponentLink1URL: http://www.linear.com/; ComponentLink2Description: Datasheet; ComponentLink2URL: http://cds.linear.com/docs/en/datasheet/3060fb.pdf; ComponentLink3Description: Package Specification; ComponentLink3URL: http://www.linear.com/docs/en/packaging/DFN_8_05-08-1719.pdf
footprint LT-DC8-8_V (SON, 8-Leads, Body 2x2mm, Pitch 0.45mm, Thermal Pad 1.37x0.64mm)
pins: 1 REF/BYP "Reference/Bypass. Connecting a single capacitor from this pin to GND bypasses the LT3060’s reference noise and soft-starts the reference. A 10nF bypass capacitor typically reduces output voltage noise to 30uVRMS in a 10H(See Datasheet)", 2 ADJ (in) "Adjust. This pin is the error amplifier’s inverting terminal. It’s typical bias current of 15nA flows out of the pin (see curve of ADJ Pin Bias Current vs Temperature in the Typical Performance Characteristics sectio(See Datasheet)", 3 OUT (power) "Output. These pin(s) supply power to the load. Stability requirements demand a minimum 2.2uF ceramic output capacitor to prevent oscillations. Large load transient applications require larger output capacitors to limit peak (See Datasheet)", 4 OUT (power) "Output. These pin(s) supply power to the load. Stability requirements demand a minimum 2.2uF ceramic output capacitor to prevent oscillations. Large load transient applications require larger output capacitors to limit peak (See Datasheet)", 5 IN (power) "Input. These pin(s) supply power to the device. The LT3060 requires a local IN bypass capacitor if it is located more than six inches from the main input filter capacitor. In general, battery output impedance rises with (See Datasheet)", 6 IN (power) "Input. These pin(s) supply power to the device. The LT3060 requires a local IN bypass capacitor if it is located more than six inches from the main input filter capacitor. In general, battery output impedance rises with (See Datasheet)", 7 ~{SHDN} (in) "Shutdown. Pulling the S\H\D\N\ pin low puts the LT3060 into a low power state and turns the output off. Drive the S\H\D\N\ pin with either logic or an open collector/drain with a pull-up resistor. The resistor supplies the (See Datasheet)", 8 GND (power) "Ground. For the adjustable LT3060, connect the bottom of the external resistor divider that sets the output voltage directly to GND for optimum regulation. For the DFN package, tie exposed pad Pin 9 directly to Pin 8 and the (See Datasheet)", 9 EP (power) "Ground. For the adjustable LT3060, connect the bottom of the external resistor divider that sets the output voltage directly to GND for optimum regulation. For the DFN package, tie exposed pad Pin 9 directly to Pin 8 and the (See Datasheet)"